# Altium schematic symbol library Testpoint,Pad,SMD.Schlib: 1 symbol
Pins are listed as number, name and electrical type; pins without a type are passive.

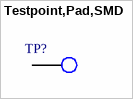
[diagram p0: symbol Testpoint,Pad,SMD]

## Testpoint,Pad,SMD
designator TP?  (value not drawn)
PCB Testpoint
pins: 1 TP